# EAGLE library part LCD_SCREEN (library LCD_SCREEN)
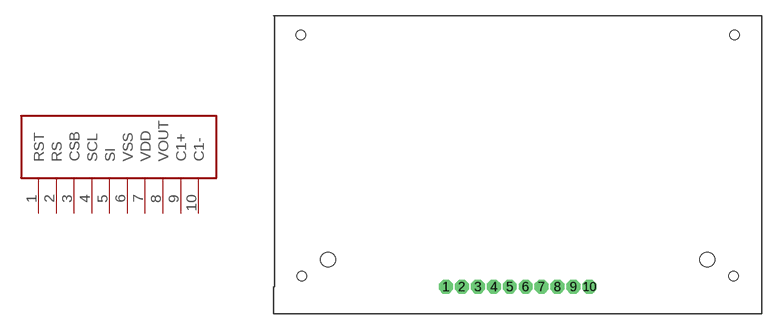
[diagram p0: symbol with the pads of LCD_SCREEN; footprint LCD_SCREEN]

Designator prefix -

## LCD_SCREEN  [LCD_SCREEN]
1  RST
2  RS
3  CSB
4  SCL
5  SI
6  VSS
7  VDD
8  VOUT
9  C1+
10  C1-

## Footprint LCD_SCREEN (pad centres in mm)
drill 0.8 octagon: 1 -6.75,0; 2 -5.25,0; 3 -3.75,0; 4 -2.25,0; 5 -0.75,0; 6 0.75,0; 7 2.25,0; 8 3.75,0; 9 5.25,0; 10 6.75,0
hole 0.9 at 20.3,1
hole 1.4 at 17.85,2.55
hole 1.4 at -17.85,2.55
hole 0.9 at -20.3,1
hole 0.9 at 20.4,23.7
hole 0.9 at -20.4,23.7